# Altium footprint library TSSOP-28.PcbLib: 1 footprints
Each footprint in its own frame and in the unit in brackets; x right, y up, seen from the top. Pads: shape width x height; smd on the part's side, far side on the other; paste and mask are expansions set on the pad; w line width, h text height; cw(c..) or ccw(c..) is an arc to the next point about the centre after c.
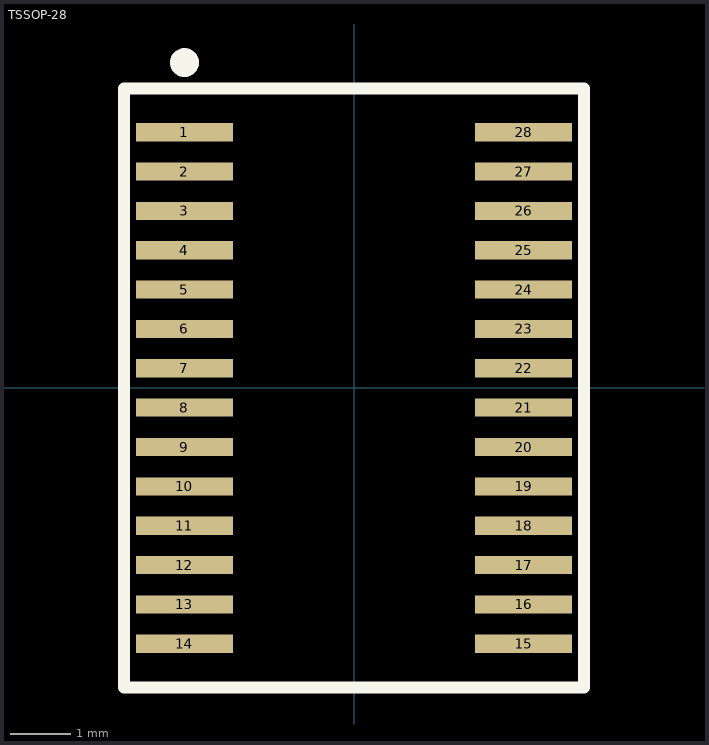
[diagram p0: the footprint, top view; thin cyan lines are the x and y axes]

## TSSOP-28 [mm]
pads (28):
  rect 1.6x0.3 smd: 1(-2.8,4.225) 2(-2.8,3.575) 3(-2.8,2.925) 4(-2.8,2.275) 5(-2.8,1.625) 6(-2.8,0.975) 7(-2.8,0.325) 8(-2.8,-0.325) 9(-2.8,-0.975) 10(-2.8,-1.625) 11(-2.8,-2.275) 12(-2.8,-2.925) 13(-2.8,-3.575) 14(-2.8,-4.225) 15(2.8,-4.225) 16(2.8,-3.575) 17(2.8,-2.925) 18(2.8,-2.275) 19(2.8,-1.625) 20(2.8,-0.975) 21(2.8,-0.325) 22(2.8,0.325) 23(2.8,0.975) 24(2.8,1.625) 25(2.8,2.275) 26(2.8,2.925) 27(2.8,3.575) 28(2.8,4.225)
Top Overlay:
  circle w0.254: c-2.8,5.375 r0.112
  lines w0.2: -3.8,-4.95 -3.8,4.95 3.8,4.95 3.8,-4.95 -3.8,-4.95
Top Assembly:
  circle w0.254: c-2.8,5.375 r0.112
  lines w0.1: -3.8,-4.95 3.8,-4.95 3.8,4.95 -3.8,4.95 -3.8,-4.95
  text "'.Designator'" at -3.965,-0.292 h0.7
3D body "User Library-TSSOP-28, 9_7x4_4mm.step": height 1.17, standoff 0, extent -3.2,-4.85 3.2,4.85